# EAGLE library part MOLEX-502598-1593 (library gwu_mpnl_ucat_v10)
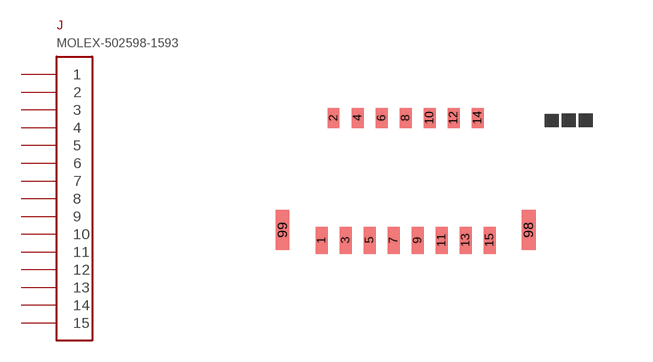
[diagram p21: symbol with the pads of MOLEX-502598-1593; footprint MOLEX-502598-1593]

Designator prefix J

## MOLEX-502598-1593  [MOLEX-502598-1593]
1  1
2  2
3  3
4  4
5  5
6  6
7  7
8  8
9  9
10  10
11  11
12  12
13  13
14  14
15  15

## Footprint MOLEX-502598-1593 (pad centres in mm)
smd 0.3 x 0.67: 1 -2.1,0.335; 3 -1.5,0.335; 5 -0.9,0.335; 7 -0.3,0.335; 9 0.3,0.335; 11 0.9,0.335; 13 1.5,0.335; 15 2.1,0.335
smd 0.3 x 0.5: 2 -1.8,3.4; 4 -1.2,3.4; 6 -0.6,3.4; 8 0,3.4; 10 0.6,3.4; 12 1.2,3.4; 14 1.8,3.4
smd 0.35 x 1: 98 3.075,0.6; 99 -3.075,0.6